# EAGLE library part TDE1798DP (library ST Microelctronics_By_element14_Batch_1)
INTELLIGENT POWER SWITCH
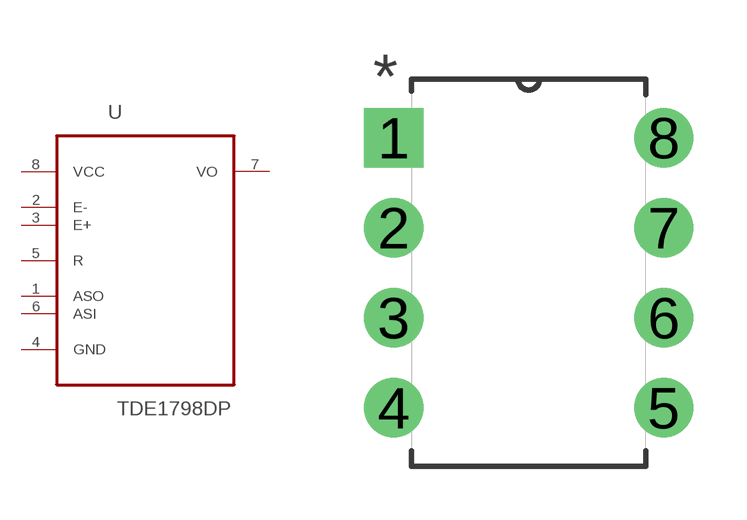
[diagram p390: symbol with the pads of DIP254P762X508-8; footprint DIP254P762X508-8]

Designator prefix U

## TDE1798DP (MPN: TDE1798DP; OC_FARNELL: 1467719; OC_NEWARK: 89K1061; PACKAGE: DIP; SUPPLIER: STMICROELECTRONICS)  [DIP254P762X508-8]
1  ASO  pas
2  E-  in
3  E+  in
4  GND  pas
5  R  pas
6  ASI  pas
7  VO  out
8  VCC  pwr

## Footprint DIP254P762X508-8 (pad centres in mm)
drill 1.118 square: 1 -7.62,7.62
drill 1.118: 2 -7.62,5.08; 3 -7.62,2.54; 4 -7.62,0; 5 0,0; 6 0,2.54; 7 0,5.08; 8 0,7.62